# EAGLE library part Y14 (library myparts)
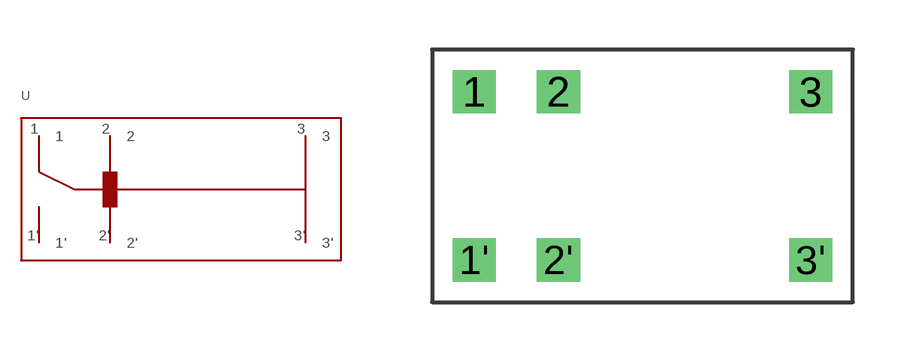
[diagram p26: symbol with the pads of Y14; footprint Y14]

Designator prefix -

## Y14  [Y14]
1  1
1'  1'
2  2
2'  2'
3  3
3'  3'

## Footprint Y14 (pad centres in mm)
drill 0.8 square: 1 0,0; 1' 0,-5.08; 2 2.54,0; 2' 2.54,-5.08; 3 10.16,0; 3' 10.16,-5.08